# Altium schematic symbol library TFTLCD.SCHLIB: 7 symbols
Pins are listed as number, name and electrical type; pins without a type are passive.

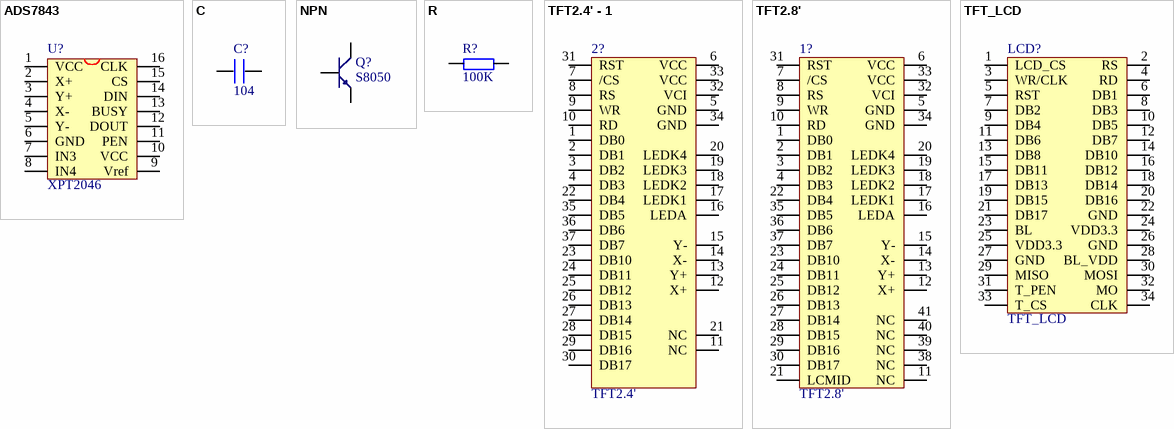
[diagram p0: symbols ADS7843 to TFT_LCD]

## ADS7843
designator U?, comment XPT2046
footprint SSOP16 (ADS7843)
pins: 1 VCC, 2 X+, 3 Y+, 4 X-, 5 Y-, 6 GND, 7 IN3, 8 IN4, 9 Vref, 10 VCC, 11 PEN, 12 DOUT, 13 BUSY, 14 DIN, 15 CS, 16 CLK

## C
designator C?, comment 104
footprint 0603P
footprint 0805
pins: 1, 2

## NPN
designator Q?, comment S8050
8050/BCW846/BCW847
footprint SOT-23R (SOT-23; 3 Leads; Body 3.0 x 2.5 mm, inc. leads (LxW max))
footprint NPN
pins: 1 E, 2 B, 3 C

## R
designator R?, comment 100K
footprint 0805
footprint 0603P
pins: 1, 2

## TFT2.4' - 1
designator 2?, comment TFT2.4'
GENE
footprint TFT2.4' - 1 (TFT,LCD,320*240,2.4',TOUCH,8/16bit,GENE)
pins: 1 DB0, 2 DB1, 3 DB2, 4 DB3, 5 GND, 6 VCC, 7 /CS, 8 RS, 9 WR, 10 RD, 11 NC, 12 X+, 13 Y+, 14 X-, 15 Y-, 16 LEDA, 17 LEDK1, 18 LEDK2, 19 LEDK3, 20 LEDK4, 21 NC, 22 DB4, 23 DB10, 24 DB11, 25 DB12, 26 DB13, 27 DB14, 28 DB15, 29 DB16, 30 DB17, 31 RST, 32 VCI, 33 VCC, 34 GND, 35 DB5, 36 DB6, 37 DB7

## TFT2.8'
designator 1?
footprint TFT2.8' (TFT,LCD,320*240,2.8',TOUCH,8/16bit)
pins: 1 DB0, 2 DB1, 3 DB2, 4 DB3, 5 GND, 6 VCC, 7 /CS, 8 RS, 9 WR, 10 RD, 11 NC, 12 X+, 13 Y+, 14 X-, 15 Y-, 16 LEDA, 17 LEDK1, 18 LEDK2, 19 LEDK3, 20 LEDK4, 21 LCMID, 22 DB4, 23 DB10, 24 DB11, 25 DB12, 26 DB13, 27 DB14, 28 DB15, 29 DB16, 30 DB17, 31 RST, 32 VCI, 33 VCC, 34 GND, 35 DB5, 36 DB6, 37 DB7, 38 NC, 39 NC, 40 NC, 41 NC

## TFT_LCD
designator LCD?
footprint DB2*17 (DB_LCD)
pins: 1 LCD_CS, 2 RS, 3 WR/CLK, 4 RD, 5 RST, 6 DB1, 7 DB2, 8 DB3, 9 DB4, 10 DB5, 11 DB6, 12 DB7, 13 DB8, 14 DB10, 15 DB11, 16 DB12, 17 DB13, 18 DB14, 19 DB15, 20 DB16, 21 DB17, 22 GND, 23 BL, 24 VDD3.3, 25 VDD3.3, 26 GND, 27 GND, 28 BL_VDD, 29 MISO, 30 MOSI, 31 T_PEN, 32 MO, 33 T_CS, 34 CLK